# Altium footprint library PCB1.PcbLib: 50 footprints (part 2 of 4)
Each footprint in its own frame and in the unit in brackets; x right, y up, seen from the top. Pads: shape width x height; smd on the part's side, far side on the other; paste and mask are expansions set on the pad; w line width, h text height; cw(c..) or ccw(c..) is an arc to the next point about the centre after c.
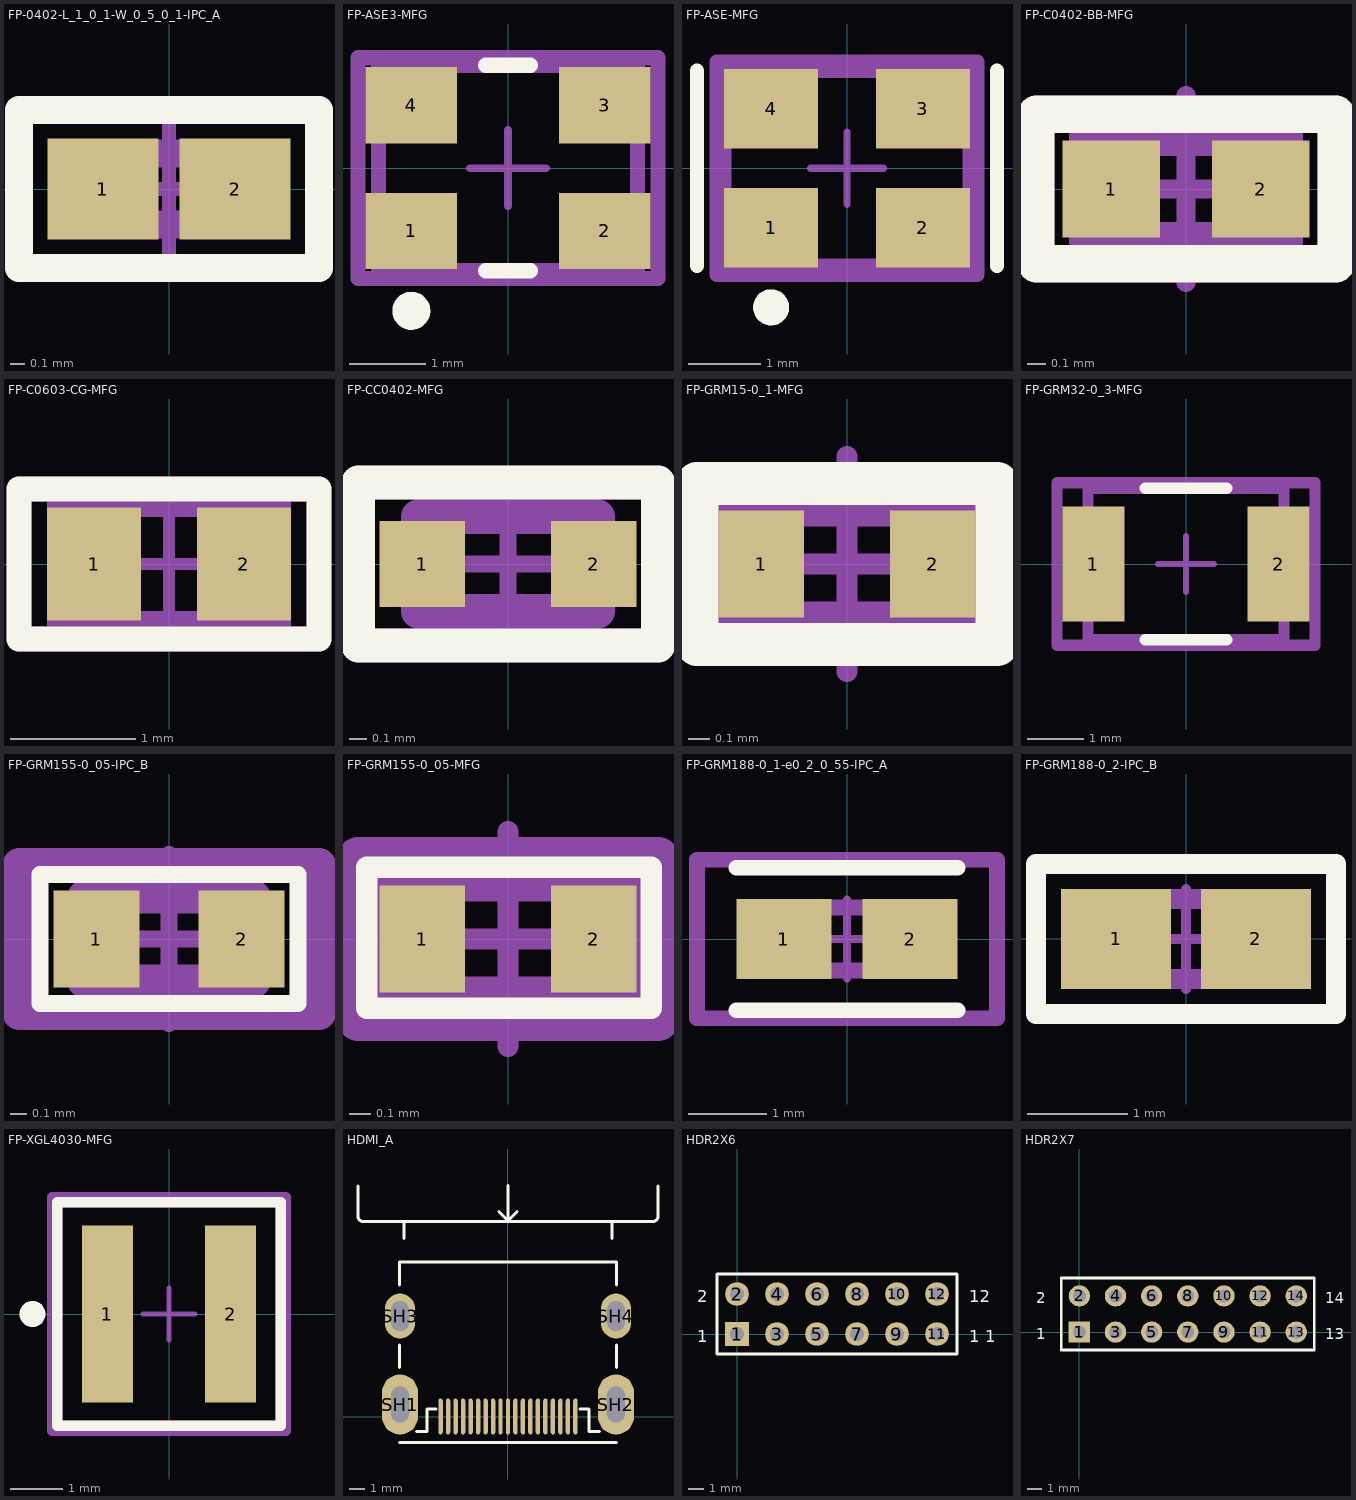
[diagram p1: the footprints below, top view; thin cyan lines are the x and y axes]

## FP-0402-L_1_0_1-W_0_5_0_1-IPC_A [mm]
pads (2):
  rect 0.781x0.712 smd paste+0 mask+0: 1(-0.466,0) 2(0.466,0)
Top Overlay:
  lines w0.2: -1.056,-0.556 -1.056,0.556 1.056,0.556 1.056,-0.556 -1.056,-0.556
Top 3D Body:
  lines w0.2: -0.5,-0.25 0.5,-0.25 0.5,0.25 -0.5,0.25 -0.5,-0.25
Top Assembly:
  lines w0.2: -1.056,-0.556 1.056,-0.556 1.056,0.556 -1.056,0.556 -1.056,-0.556
  text ".Designator" at 0,0.188 h1
Top Component Center:
  lines w0.1: -0.5,0 0.5,0 ; 0,-0.5 0,0.5
3D body "Cap_AVX_04025C472KAT2A_eec.STEP": height 0.25, standoff 0, extent -1.056,-0.556 1.056,0.556

## FP-ASE3-MFG [mm]
pads (4):
  rect 1.2x1 smd paste+0 mask+0: 1(-1.27,-0.825) 2(1.27,-0.825) 3(1.27,0.825) 4(-1.27,0.825)
Top Overlay:
  circle w0.25: c-1.27,-1.875 r0.125
  lines w0.2: -0.295,-1.35 0.295,-1.35 ; -0.295,1.35 0.295,1.35
Top 3D Body:
  lines w0.2: -1.7,-1.35 1.7,-1.35 1.7,1.35 -1.7,1.35 -1.7,-1.35
Top Assembly:
  lines w0.2: -1.97,-1.45 1.97,-1.45 1.97,1.45 -1.97,1.45 -1.97,-1.45
  text ".Designator" at 0,0.188 h1
Top Courtyard:
  lines w0.2: -1.97,-1.45 1.97,-1.45 1.97,1.45 -1.97,1.45 -1.97,-1.45
Top Component Center:
  lines w0.1: -0.5,0 0.5,0 ; 0,-0.5 0,0.5
3D body "Crys_Abracon_ASE3-25_000MHZ-KT_eec.STEP": height 0.25, standoff 0, extent -1.97,-1.45 1.97,1.45

## FP-ASE-MFG [mm]
pads (4):
  rect 1.3x1.1 smd paste+0 mask+0: 1(-1.05,-0.825) 2(1.05,-0.825) 3(1.05,0.825) 4(-1.05,0.825)
Top Overlay:
  circle w0.25: c-1.05,-1.925 r0.125
  lines w0.2: -2.075,-1.35 -2.075,1.35 ; 2.075,-1.35 2.075,1.35
Top 3D Body:
  lines w0.2: -1.7,-1.35 -1.7,1.35 1.7,1.35 1.7,-1.35 -1.7,-1.35
Top Assembly:
  lines w0.2: -1.8,-1.475 -1.8,1.475 1.8,1.475 1.8,-1.475 -1.8,-1.475
  text ".Designator" at 0,0.188 h1
Top Courtyard:
  lines w0.2: -1.8,-1.475 -1.8,1.475 1.8,1.475 1.8,-1.475 -1.8,-1.475
Top Component Center:
  lines w0.1: -0.5,0 0.5,0 ; 0,-0.5 0,0.5
3D body "Crys_Abracon_ASE-26_000MHZ-LR-T_eec.STEP": height 0.25, standoff 0, extent -1.8,-1.475 1.8,1.475

## FP-C0402-BB-MFG [mm]
pads (2):
  rect 0.52x0.52 smd paste+0 mask+0: 1(-0.4,0) 2(0.4,0)
Top Overlay:
  lines w0.2: -0.8,-0.4 0.8,-0.4 0.8,0.4 -0.8,0.4 -0.8,-0.4
Top 3D Body:
  lines w0.2: -0.525,-0.275 0.525,-0.275 0.525,0.275 -0.525,0.275 -0.525,-0.275
Top Assembly:
  lines w0.2: -0.8,-0.4 0.8,-0.4 0.8,0.4 -0.8,0.4 -0.8,-0.4
  text ".Designator" at 0,0.188 h1
Top Component Center:
  lines w0.1: -0.5,0 0.5,0 ; 0,-0.5 0,0.5
3D body "Cap_Kemet_C0402C562J5RACTU_eec.STEP": height 0.25, standoff 0, extent -0.8,-0.4 0.8,0.4

## FP-C0603-CG-MFG [mm]
pads (2):
  rect 0.75x0.9 smd paste+0 mask+0: 1(-0.6,0) 2(0.6,0)
Top Overlay:
  lines w0.2: -1.2,-0.6 1.2,-0.6 1.2,0.6 -1.2,0.6 -1.2,-0.6
Top 3D Body:
  lines w0.2: -0.875,-0.475 0.875,-0.475 0.875,0.475 -0.875,0.475 -0.875,-0.475
Top Assembly:
  lines w0.2: -1.2,-0.6 1.2,-0.6 1.2,0.6 -1.2,0.6 -1.2,-0.6
  text ".Designator" at 0,0.188 h1
Top Component Center:
  lines w0.1: -0.5,0 0.5,0 ; 0,-0.5 0,0.5
3D body "Cap_Kemet_C0603C475K9PACTU_eec.STEP": height 0.25, standoff 0, extent -1.2,-0.6 1.2,0.6

## FP-CC0402-MFG [mm]
pads (2):
  rect 0.5x0.5 smd paste+0 mask+0: 1(-0.5,0) 2(0.5,0)
Top Overlay:
  lines w0.2: -0.875,-0.475 0.875,-0.475 0.875,0.475 -0.875,0.475 -0.875,-0.475
Top 3D Body:
  lines w0.2: -0.525,-0.275 -0.525,0.275 0.525,0.275 0.525,-0.275 -0.525,-0.275
Top Assembly:
  lines w0.2: -0.875,-0.475 -0.875,0.475 0.875,0.475 0.875,-0.475 -0.875,-0.475
  text ".Designator" at 0,0.188 h1
Top Component Center:
  lines w0.1: -0.5,0 0.5,0 ; 0,-0.5 0,0.5
3D body "Cap_YAGEO_CC0402KRX7R9BB101_eec.STEP": height 0.25, standoff 0, extent -0.875,-0.475 0.875,0.475

## FP-GRM15-0_1-MFG [mm]
pads (2):
  rect 0.4x0.5 smd paste+0 mask+0: 1(-0.4,0) 2(0.4,0)
Top Overlay:
  lines w0.2: -0.7,-0.375 0.7,-0.375 0.7,0.375 -0.7,0.375 -0.7,-0.375
Top 3D Body:
  lines w0.2: -0.525,-0.275 -0.525,0.275 0.525,0.275 0.525,-0.275 -0.525,-0.275
Top Assembly:
  lines w0.2: -0.7,-0.375 -0.7,0.375 0.7,0.375 0.7,-0.375 -0.7,-0.375
  text ".Designator" at 0,0.188 h1
Top Component Center:
  lines w0.1: -0.5,0 0.5,0 ; 0,-0.5 0,0.5
3D body "Cap_Murata_Electronics_North_America_GRM155R61A474KE15D_eec.STEP": height 0.55, standoff 0, extent -0.5,-0.25 0.5,0.25

## FP-GRM32-0_3-MFG [mm]
pads (2):
  rect 1.1x2.05 smd paste+0 mask+0: 1(-1.65,0) 2(1.65,0)
Top Overlay:
  lines w0.2: -0.725,-1.35 0.725,-1.35 ; -0.725,1.35 0.725,1.35
Top 3D Body:
  lines w0.2: -1.75,-1.35 1.75,-1.35 1.75,1.35 -1.75,1.35 -1.75,-1.35
Top Assembly:
  lines w0.2: -2.3,-1.45 2.3,-1.45 2.3,1.45 -2.3,1.45 -2.3,-1.45
  text ".Designator" at 0,0.188 h1
Top Courtyard:
  lines w0.2: -2.3,-1.45 2.3,-1.45 2.3,1.45 -2.3,1.45 -2.3,-1.45
Top Component Center:
  lines w0.1: -0.5,0 0.5,0 ; 0,-0.5 0,0.5
3D body "Cap_Murata_GRM32ER60J107ME20L_eec.STEP": height 0.25, standoff 0, extent -2.3,-1.45 2.3,1.45

## FP-GRM155-0_05-IPC_B [mil]
pads (2):
  rect 20x22.54 smd paste+0 mask+0: 1(-16.87,0) 2(16.87,0)
Top Overlay:
  lines w3.94: -30,-15 -30,15 30,15 30,-15 -30,-15
Top 3D Body:
  lines w7.87: -19.68,-9.84 -19.68,9.84 19.68,9.84 19.68,-9.84 -19.68,-9.84
Top Assembly:
  lines w7.87: -34.89,-17.17 -34.89,17.17 34.89,17.17 34.89,-17.17 -34.89,-17.17
  text ".Designator" at 0,7.39 h39.37
Top Component Center:
  lines w3.94: -19.68,0 19.68,0 ; 0,-19.68 0,19.68
3D body "Cap_Murata_GRM1552C1H271GA01J_eec.STEP": height 10, standoff 0, extent -34.89,-17.17 34.89,17.17

## FP-GRM155-0_05-MFG [mm]
pads (2):
  rect 0.4x0.5 smd paste+0 mask+0: 1(-0.4,0) 2(0.4,0)
Top Overlay:
  lines w0.1: -0.658,-0.324 -0.658,0.334 0.669,0.334 0.669,-0.324 -0.658,-0.324
Top 3D Body:
  lines w0.2: -0.525,-0.275 0.525,-0.275 0.525,0.275 -0.525,0.275 -0.525,-0.275
Top Assembly:
  lines w0.2: -0.7,-0.375 0.7,-0.375 0.7,0.375 -0.7,0.375 -0.7,-0.375
  text ".Designator" at 0,0.188 h1
Top Component Center:
  lines w0.1: -0.5,0 0.5,0 ; 0,-0.5 0,0.5
3D body "Cap_Murata_GRM1552C1H271GA01J_eec.STEP": height 0.55, standoff 0, extent -0.5,-0.25 0.5,0.25

## FP-GRM188-0_1-e0_2_0_55-IPC_A [mm]
pads (2):
  rect 1.208x1.012 smd paste+0 mask+0: 1(-0.802,0) 2(0.802,0)
Top Overlay:
  lines w0.2: -1.406,-0.906 1.406,-0.906 ; -1.406,0.906 1.406,0.906
Top 3D Body:
  lines w0.2: -0.8,-0.4 -0.8,0.4 0.8,0.4 0.8,-0.4 -0.8,-0.4
Top Assembly:
  lines w0.2: -1.906,-1.006 -1.906,1.006 1.906,1.006 1.906,-1.006 -1.906,-1.006
  text ".Designator" at 0,0.188 h1
Top Courtyard:
  lines w0.2: -1.906,-1.006 -1.906,1.006 1.906,1.006 1.906,-1.006 -1.906,-1.006
Top Component Center:
  lines w0.1: -0.5,0 0.5,0 ; 0,-0.5 0,0.5
3D body "Cap_Murata_GRM188R60J106KE47D_eec.STEP": height 0.25, standoff 0, extent -1.906,-1.006 1.906,1.006

## FP-GRM188-0_2-IPC_B [mm]
pads (2):
  rect 1.105x1.006 smd paste+0 mask+0: 1(-0.701,0) 2(0.701,0)
Top Overlay:
  lines w0.2: -1.503,-0.753 -1.503,0.753 1.503,0.753 1.503,-0.753 -1.503,-0.753
Top 3D Body:
  lines w0.2: -0.8,-0.4 -0.8,0.4 0.8,0.4 0.8,-0.4 -0.8,-0.4
Top Assembly:
  lines w0.2: -1.503,-0.753 -1.503,0.753 1.503,0.753 1.503,-0.753 -1.503,-0.753
  text ".Designator" at 0,0.188 h1
Top Component Center:
  lines w0.1: -0.5,0 0.5,0 ; 0,-0.5 0,0.5
3D body "Cap_Murata_GRM188C71C225KE11D_eec.STEP": height 0.25, standoff 0, extent -1.503,-0.753 1.503,0.753

## FP-XGL4030-MFG [mm]
pads (2):
  rect 0.98x3.4 smd paste+0 mask+0: 1(-1.185,0) 2(1.185,0)
Top Overlay:
  circle w0.25: c-2.625,0 r0.125
  lines w0.2: -2.15,-2.15 2.15,-2.15 2.15,2.15 -2.15,2.15 -2.15,-2.15
Top 3D Body:
  lines w0.2: -2.15,-2.15 2.15,-2.15 2.15,2.15 -2.15,2.15 -2.15,-2.15
Top Assembly:
  lines w0.2: -2.25,-2.25 2.25,-2.25 2.25,2.25 -2.25,2.25 -2.25,-2.25
  text ".Designator" at 0,0.188 h1
Top Courtyard:
  lines w0.2: -2.25,-2.25 2.25,-2.25 2.25,2.25 -2.25,2.25 -2.25,-2.25
Top Component Center:
  lines w0.1: -0.5,0 0.5,0 ; 0,-0.5 0,0.5
3D body "Ind_Coilcraft_XGL4030-152MEC_eec.STEP": height 0.25, standoff 0, extent -2.25,-2.25 2.25,2.25

## HDMI_A [mm]
pads (23):
  oval 0.3x2.4 smd mask+0.025: 1(-4.5,0) 2(-4,0) 3(-3.5,0) 4(-3,0) 5(-2.5,0) 6(-2,0) 7(-1.5,0) 8(-1,0) 9(-0.5,0) 10(0,0) 11(0.5,0) 12(1,0) 13(1.5,0) 14(2,0) 15(2.5,0) 16(3,0) 17(3.5,0) 18(4,0) 19(4.5,0)
  oval 2.4x4 hole 1.2 slot 2.4 at 90 deg: SH1(-7.2,0.8) SH2(7.2,0.8)
  oval 2x3 hole 1.2 slot 2 at 90 deg: SH3(-7.2,6.7) SH4(7.2,6.7)
Top Overlay:
  lines w0.2: -10,13.31 -10,15.36 ; -10,13.36 ccw(c-9.675,13.335) -9.7,13.01 9.7,13.01 ccw(c9.675,13.335) 10,13.36 10,15.36 ; -7.25,-1.74 7.25,-1.74 ; -7.25,3.26 -7.25,4.76 ; -7.25,8.76 -7.25,10.26 ; -7.25,10.31 7.2,10.31 7.25,10.26 7.25,8.76 ; -6.95,11.86 -6.95,13.01 ; -6.1,-1 -5.4,-1 -5.4,0.5 -4.8,0.5 ; -0.6,13.66 0,13.06 ; 0,15.41 0,13.06 ; 0.6,13.66 0,13.06 ; 4.8,0.5 5.4,0.5 5.4,-1 6.1,-1 ; 6.95,11.86 6.95,13.01 ; 7.25,3.26 7.25,4.76
Mechanical 29:
  text ".Designator" at -4.1,6.46 h1.02
3D body "685119134923.stp": height 6.17, standoff -2.21, extent -7.5,-0.75 7.5,11.4

## HDR2X6 [mm]
pads (12):
  rect 1.5x1.5 hole 0.9: 1(0,0)
  round 1.5 hole 0.9: 2(0,2.54) 3(2.54,0) 4(2.54,2.54) 5(5.08,0) 6(5.08,2.54) 7(7.62,0) 8(7.62,2.54) 9(10.16,0) 10(10.16,2.54) 11(12.7,0) 12(12.7,2.54)
Top Overlay:
  lines w0.2: -1.27,-1.27 13.97,-1.27 13.97,3.81 -1.27,3.81 -1.27,-1.27
  text "12" at 14.732,2.032 h0.76
  text "1" at 15.748,-0.508 h0.76
  text "1" at 14.732,-0.508 h0.76
  text "1" at -2.54,-0.508 h0.76
  text "2" at -2.54,2.032 h0.76

## HDR2X7 [mm]
pads (14):
  rect 1.5x1.5 hole 0.9: 1(0,0)
  round 1.5 hole 0.9: 2(0,2.54) 3(2.54,0) 4(2.54,2.54) 5(5.08,0) 6(5.08,2.54) 7(7.62,0) 8(7.62,2.54) 9(10.16,0) 10(10.16,2.54) 11(12.7,0) 12(12.7,2.54) 13(15.24,0) 14(15.24,2.54)
Top Overlay:
  lines w0.2: -1.27,-1.27 -1.27,3.81 16.51,3.81 16.51,-1.27 -1.27,-1.27
  text "2" at -3.048,2.032 h0.76
  text "1" at -3.048,-0.508 h0.76
  text "14" at 17.272,2.032 h0.76
  text "13" at 17.272,-0.508 h0.76